# Altium footprint library MolexG.PcbLib: 8 footprints
Each footprint in its own frame and in the unit in brackets; x right, y up, seen from the top. Pads: shape width x height; smd on the part's side, far side on the other; paste and mask are expansions set on the pad; w line width, h text height; cw(c..) or ccw(c..) is an arc to the next point about the centre after c.
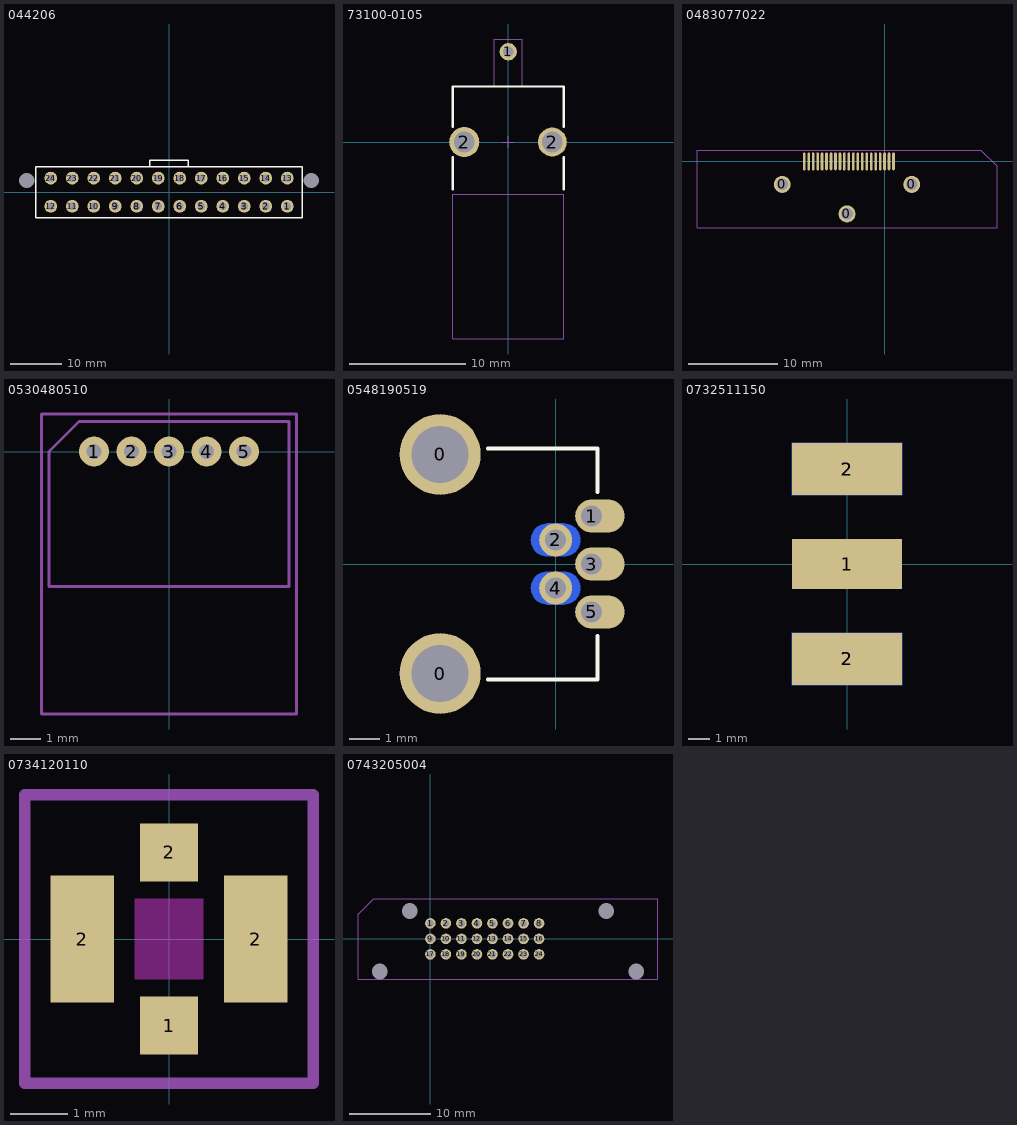
[diagram p0: the footprints below, top view; thin cyan lines are the x and y axes]

## 044206 [mm]
height 12.8
pads (26):
  round 0 hole 3: 0(-27.8,2.29) 0(27.8,2.29)
  round 2.5 hole 1.5: 1(23.1,-2.75) 2(18.9,-2.75) 3(14.7,-2.75) 4(10.5,-2.75) 5(6.3,-2.75) 6(2.1,-2.75) 7(-2.1,-2.75) 8(-6.3,-2.75) 9(-10.5,-2.75) 10(-14.7,-2.75) 11(-18.9,-2.75) 12(-23.1,-2.75) 13(23.1,2.75) 14(18.9,2.75) 15(14.7,2.75) 16(10.5,2.75) 17(6.3,2.75) 18(2.1,2.75) 19(-2.1,2.75) 20(-6.3,2.75) 21(-10.5,2.75) 22(-14.7,2.75) 23(-18.9,2.75) 24(-23.1,2.75)
Top Overlay:
  lines w0.254: -3.75,5 -3.75,6.25 3.75,6.25 3.75,5 ; -26,-5 26,-5 26,5 -26,5 -26,-5
3D body: height 12.8, standoff 0, extent -26,-5 26,5

## 73100-0105 [mm] "BNC Jack, right-angle"
height 8.6
pads (3):
  round 1.5 hole 0.92: 1(0,7.8)
  round 2.6 hole 1.8: 2(-3.8,0)
  round 2.5 hole 1.8: 2(3.8,0)
Top Overlay:
  lines w0.2: -4.8,-4.1 -4.8,-1.3 ; -4.8,1.3 -4.8,4.8 4.8,4.8 4.8,1.3 ; 4.8,-4.1 4.8,-1.3
Courtyard:
  lines w0.1: -1.2,4.8 -1.2,8.9 1.2,8.9 1.2,4.8 ; -0.5,0 0.5,0 ; 0,-0.5 0,0.5 ; -4.8,-17 -4.8,-4.5 4.8,-4.5 4.8,-17 -4.8,-17
3D body: height 8.79, standoff -0.79, extent -4.962,-17 4.6,-4
3D body: height 8.79, standoff 0.01, extent -4.365,-4 4.4,4.8

## 0483077022 [mm] "HDMI socket vertical"
pads (24):
  round 1.9 hole 1.3: 0(-11.46,-2.575) 0(-4.21,-5.875) 0(3.04,-2.575)
  oval 0.3x2 smd: 0(0.5,0) 0(1,0) 1(0,0) 2(-0.5,0) 3(-1,0) 4(-1.5,0) 5(-2,0) 6(-2.5,0) 7(-3,0) 8(-3.5,0) 9(-4,0) 10(-4.5,0) 11(-5,0) 12(-5.5,0) 13(-6,0) 14(-6.5,0) 15(-7,0) 16(-7.5,0) 17(-8,0) 18(-8.5,0) 19(-9,0)
Assembly:
  lines w0.1: -21.01,-7.425 12.59,-7.425 12.59,-0.55 10.79,1.25 -21.01,1.25 -21.01,-7.425
3D body: height 11.65, standoff -2.45, extent -21.01,-7.425 12.59,1.275

## 0530480510 [mm] "Picoblade PTH right-angle 5-position"
pads (5):
  round 1 hole 0.5: 1(-2.5,0) 2(-1.25,0) 3(0,0) 4(1.25,0) 5(2.5,0)
Assembly:
  lines w0.1: -4,-4.5 4,-4.5 4,1 -3,1 -4,0 -4,-4.5 ; -4,-4.5 -4,-4.5
Courtyard:
  lines w0.1: -4.25,-8.75 -4.25,-4.75 -4.25,1.25 4.25,1.25 4.25,-8.75 -4.25,-8.75
3D body: height 3.5, standoff 0, extent -4,-4.5 4,1

## 0548190519 [mm] "CONN USB RECEPTACLE 5POS RT ANG"
height 4
pads (9):
  round 2.7 hole 1.9: 0(-3.85,-3.65) 0(-3.85,3.65)
  oval 1.65x1.1 hole 0.7 copper offset 0.275,0: 1(1.2,1.6) 3(1.2,0) 5(1.2,-1.6)
  round 1.1 hole 0.7: 2(0,0.8) 4(0,-0.8)
  oval 1.65x1.1 smd far side: 2(0,0.8) 4(0,-0.8)
Top Overlay:
  lines w0.127: -2.25,-3.85 1.4,-3.85 1.4,-2.4 ; -2.25,3.85 1.4,3.85 1.4,2.4
3D body: height 3.95, standoff 0, extent -7.6,-3.85 1.4,3.85

## 0732511150 [mm] "SMA Receptacle, End Launch 1.6mm"
height 4.3
pads (5):
  rect 5.08x2.29 smd: 1(0,0)
  rect 5.08x2.415 smd: 2(0,-4.383) 2(0,4.383)
  rect 5.08x2.415 smd far side: 2(0,-4.383) 2(0,4.383)
3D body: height 4.34, standoff -3.59, extent -4.65,-4.765 -3,4.765
3D body: height 3.53, standoff -2.8, extent -12.53,-3.169 -4.65,3.169
3D body: height 0.76, standoff 0, extent -3,-0.379 1.75,0.379
3D body: height 1, standoff 0, extent -3,3.75 1.75,4.75
3D body: height 1, standoff 0, extent -3,-4.75 1.75,-3.75
3D body: height -1.68, standoff -3.59, extent -3,-4.75 1.75,-3.75
3D body: height -1.68, standoff -3.59, extent -3,3.75 1.75,4.75

## 0734120110 [mm] "u.FL/UMCC"
height 1.3
pads (4):
  rect 1x1 smd: 1(0,-1.5) 2(0,1.5)
  rect 1.1x2.2 smd: 2(-1.5,0) 2(1.5,0)
Top Layer keep-out:
  rectangle: -0.6,-0.7 0.6,0.7
Courtyard:
  lines w0.2: -2.5,-2.5 -2.5,2.5 2.5,2.5 2.5,-2.5 -2.5,-2.5
3D body: height 1.3, standoff 0.36, extent -0.992,-0.998 1,0.998
3D body: height 0.36, standoff 0, extent -1.3,-1.3 1.3,1.3

## 0743205004 [mm] "DVI socket, vertical"
pads (28):
  round 0 hole 1.93 unplated: 0(-6.223,-4.013) 0(-2.54,3.429) 0(21.59,3.429) 0(25.273,-4.013)
  round 1.3 hole 0.86: 1(0,1.905) 2(1.905,1.905) 3(3.81,1.905) 4(5.715,1.905) 5(7.62,1.905) 6(9.525,1.905) 7(11.43,1.905) 8(13.335,1.905) 9(0,0) 10(1.905,0) 11(3.81,0) 12(5.715,0) 13(7.62,0) 14(9.525,0) 15(11.43,0) 16(13.335,0) 17(0,-1.905) 18(1.905,-1.905) 19(3.81,-1.905) 20(5.715,-1.905) 21(7.62,-1.905) 22(9.525,-1.905) 23(11.43,-1.905) 24(13.335,-1.905)
Assembly:
  lines w0.1: -8.89,-4.953 -8.89,3.048 -6.985,4.953 27.94,4.953 27.94,-4.953 -8.89,-4.953
3D body: height 11.48, standoff 0, extent -8.89,-4.953 27.94,4.953